# Altium schematic symbol library 三极管.SchLib: 19 symbols
Pins are listed as number, name and electrical type; pins without a type are passive.

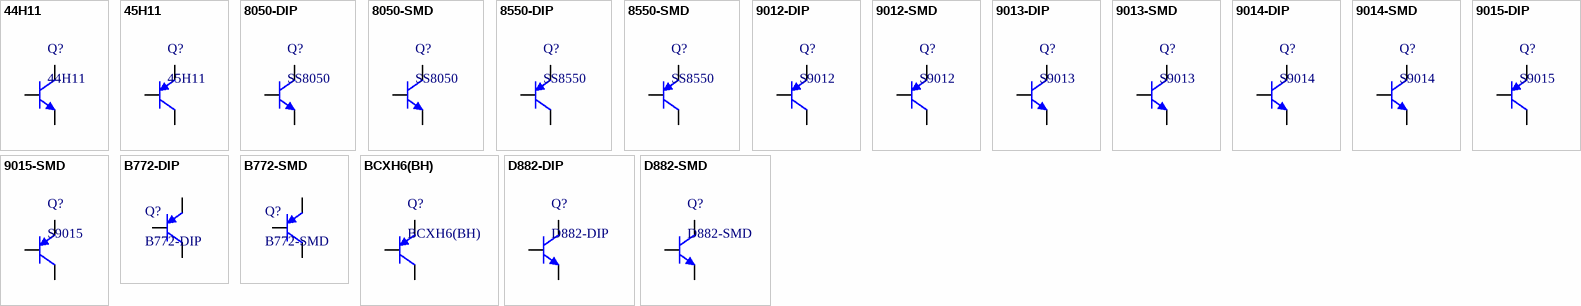
[diagram p0: symbols 44H11 to D882-SMD]

## 44H11
designator Q?
互补功率-NPN型; 版权归属: 源创客; 属性: 80V 8A 50W; BOM名称: 互补功率-NPN型; 学习资源: www.ooocke.com
footprint TO252 (252晶体管)
footprint TO251A (251，3脚晶体管)
footprint TO251B (251，3脚晶体管)
pins: 1 B, 2 C, 3 E

## 45H11
designator Q?
互补功率-PNP型; 版权归属: 源创客; 属性: 80V 8A 50W; BOM名称: 互补功率-PNP型; 学习资源: www.ooocke.com
footprint TO252 (252晶体管)
footprint TO251A (251，3脚晶体管)
footprint TO251B (251，3脚晶体管)
pins: 1 B, 2 C, 3 E

## 8050-DIP
designator Q?, comment SS8050
高频放大-NPN型; 版权归属: 源创客; 属性: 40V 1.5A 1W 100MHZ; BOM名称: 高频放大-NPN型; 学习资源: www.ooocke.com
footprint TO92A (92晶体管)
footprint TO92B (92晶体管)
pins: 1 E, 2 B, 3 C

## 8050-SMD
designator Q?, comment SS8050
高频放大-NPN型; 版权归属: 源创客; 属性: 40V 1.5A 1W 100MHZ; BOM名称: 高频放大-NPN型; 学习资源: www.ooocke.com
footprint SOT23-3N (3x1.3x1mm(长宽高))
footprint SOT23-3L (3x1.3x1mm(长宽高))
footprint SOT23-3M (3x1.3x1mm(长宽高))
pins: 1 B, 2 E, 3 C

## 8550-DIP
designator Q?, comment SS8550
高频放大-PNP型; 版权归属: 源创客; 属性: 40V 1.5A 1W 100MHZ; BOM名称: 高频放大-PNP型; 学习资源: www.ooocke.com
footprint TO92A (92晶体管)
footprint TO92B (92晶体管)
pins: 1 E, 2 B, 3 C

## 8550-SMD
designator Q?, comment SS8550
高频放大-PNP型; 版权归属: 源创客; 属性: 40V 1.5A 1W 100MHZ; BOM名称: 高频放大-PNP型; 学习资源: www.ooocke.com
footprint SOT23-3N (3x1.3x1mm(长宽高))
footprint SOT23-3L (3x1.3x1mm(长宽高))
footprint SOT23-3M (3x1.3x1mm(长宽高))
pins: 1 B, 2 E, 3 C

## 9012-DIP
designator Q?, comment S9012
低频放大-PNP型; 版权归属: 源创客; 属性: 50V 0.5A 0.625W; BOM名称: 低频放大-PNP型; 学习资源: www.ooocke.com
footprint TO92A (92晶体管)
footprint TO92B (92晶体管)
pins: 1 E, 2 B, 3 C

## 9012-SMD
designator Q?, comment S9012
低频放大-PNP型; 版权归属: 源创客; 属性: 50V 0.5A 0.625W; BOM名称: 低频放大-PNP型; 学习资源: www.ooocke.com
footprint SOT23-3N (3x1.3x1mm(长宽高))
footprint SOT23-3L (3x1.3x1mm(长宽高))
footprint SOT23-3M (3x1.3x1mm(长宽高))
pins: 1 B, 2 E, 3 C

## 9013-DIP
designator Q?, comment S9013
低频放大-NPN型; 版权归属: 源创客; 属性: 50V 0.5A 0.625W; BOM名称: 低频放大-NPN型; 学习资源: www.ooocke.com
footprint TO92A (92晶体管)
footprint TO92B (92晶体管)
pins: 1 E, 2 B, 3 C

## 9013-SMD
designator Q?, comment S9013
低频放大-NPN型; 版权归属: 源创客; 属性: 50V 0.5A 0.625W; BOM名称: 低频放大-NPN型; 学习资源: www.ooocke.com
footprint SOT23-3N (3x1.3x1mm(长宽高))
footprint SOT23-3L (3x1.3x1mm(长宽高))
footprint SOT23-3M (3x1.3x1mm(长宽高))
pins: 1 B, 2 E, 3 C

## 9014-DIP
designator Q?, comment S9014
低噪放大-NPN型; 版权归属: 源创客; 属性: 50V 0.1A 0.4W 150MHZ; BOM名称: 低噪放大-NPN型; 学习资源: www.ooocke.com
footprint TO92A (92晶体管)
footprint TO92B (92晶体管)
pins: 1 E, 2 B, 3 C

## 9014-SMD
designator Q?, comment S9014
低噪放大-NPN型; 版权归属: 源创客; 属性: 50V 0.1A 0.4W 150MHZ; BOM名称: 低噪放大-NPN型; 学习资源: www.ooocke.com
footprint SOT23-3N (3x1.3x1mm(长宽高))
footprint SOT23-3L (3x1.3x1mm(长宽高))
footprint SOT23-3M (3x1.3x1mm(长宽高))
pins: 1 B, 2 E, 3 C

## 9015-DIP
designator Q?, comment S9015
低噪放大-PNP型; 版权归属: 源创客; 属性: 50V 0.1A 0.4W 150MHZ; BOM名称: 低噪放大-PNP型; 学习资源: www.ooocke.com
footprint TO92A (92晶体管)
footprint TO92B (92晶体管)
pins: 1 E, 2 B, 3 C

## 9015-SMD
designator Q?, comment S9015
低噪放大-PNP型; 版权归属: 源创客; 属性: 50V 0.1A 0.4W 150MHZ; BOM名称: 低噪放大-PNP型; 学习资源: www.ooocke.com
footprint SOT23-3N (3x1.3x1mm(长宽高))
footprint SOT23-3L (3x1.3x1mm(长宽高))
footprint SOT23-3M (3x1.3x1mm(长宽高))
pins: 1 B, 2 E, 3 C

## B772-DIP
designator Q?
音频功放-PNP型; 版权归属: 源创客; 属性: 40V 3A 10W; BOM名称: 音频功放-PNP型; 学习资源: www.ooocke.com
footprint TO126 (126晶体管)
pins: 1 E, 2 C, 3 B

## B772-SMD
designator Q?
音频功放-PNP型; 版权归属: 源创客; 属性: 40V 3A 10W; BOM名称: 音频功放-PNP型; 学习资源: www.ooocke.com
footprint SOT89_N (4.6x4.3x1.6mm(长宽高))
footprint SOT89_M (4.6x4.3x1.6mm(长宽高))
footprint SOT89_L (4.6x4.3x1.6mm(长宽高))
pins: 1 B, 2 C, 3 E

## BCXH6(BH)
designator Q?
NPN型三极管; 版权归属: 源创客; BOM名称: NPN型三极管; 学习资源: www.ooocke.com
footprint SOT89_N (4.6x4.3x1.6mm(长宽高))
footprint SOT89_L (4.6x4.3x1.6mm(长宽高))
footprint SOT89_M (4.6x4.3x1.6mm(长宽高))
pins: 1 B, 2 C, 3 E

## D882-DIP
designator Q?
音频功放-NPN型; 版权归属: 源创客; 属性: 40V 3A 30W; BOM名称: 音频功放-NPN型; 学习资源: www.ooocke.com
footprint TO126 (126晶体管)
pins: 1 E, 2 C, 3 B

## D882-SMD
designator Q?
音频功放-NPN型; 版权归属: 源创客; 属性: 40V 3A 30W; BOM名称: 音频功放-NPN型; 学习资源: www.ooocke.com
footprint SOT89_N (4.6x4.3x1.6mm(长宽高))
footprint SOT89_L (4.6x4.3x1.6mm(长宽高))
footprint SOT89_M (4.6x4.3x1.6mm(长宽高))
pins: 1 B, 2 C, 3 E